# EAGLE library part FCI-MINI_JTAG_HEADER (library Nwazet.Go)
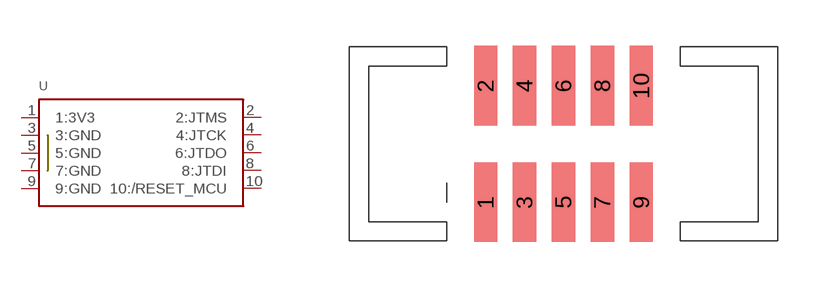
[diagram p7: symbol with the pads of FCI-MINI_JTAG_CONNECTOR; footprint FCI-MINI_JTAG_CONNECTOR]

Designator prefix -

## FCI-MINI_JTAG_HEADER  [FCI-MINI_JTAG_CONNECTOR]
1  1:3V3  sup
2  2:JTMS
3  3:GND  pas
4  4:JTCK
5  5:GND  pas
6  6:JTDO
7  7:GND  pas
8  8:JTDI
9  9:GND  pas
10  10:/RESET_MCU

## Footprint FCI-MINI_JTAG_CONNECTOR (pad centres in mm)
smd 0.76 x 2.6: 1 -2.54,-1.905; 2 -2.54,1.905; 3 -1.27,-1.905; 4 -1.27,1.905; 5 0,-1.905; 6 0,1.905; 7 1.27,-1.905; 8 1.27,1.905; 9 2.54,-1.905; 10 2.54,1.905